# Altium footprint library AL3S10LG144.PcbLib: 2 footprints
Each footprint in its own frame and in the unit in brackets; x right, y up, seen from the top. Pads: shape width x height; smd on the part's side, far side on the other; paste and mask are expansions set on the pad; w line width, h text height; cw(c..) or ccw(c..) is an arc to the next point about the centre after c.
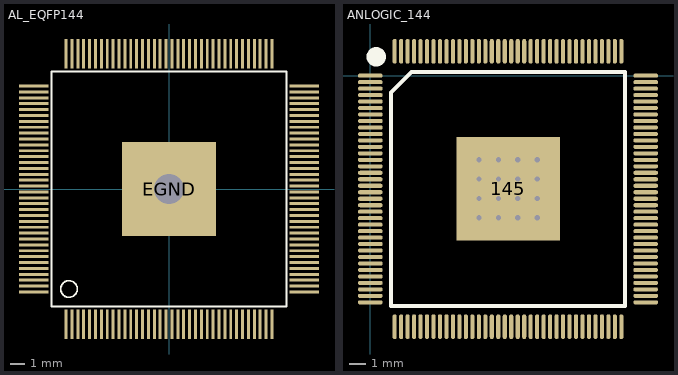
[diagram p0: the footprints below, top view; thin cyan lines are the x and y axes]

## AL_EQFP144 [mm]
pads (145):
  rect 0.2x2 smd: 1(-7,-9.2) 2(-6.6,-9.2) 3(-6.2,-9.2) 4(-5.8,-9.2) 5(-5.4,-9.2) 6(-5,-9.2) 7(-4.6,-9.2) 8(-4.2,-9.2) 9(-3.8,-9.2) 10(-3.4,-9.2) 11(-3,-9.2) 12(-2.6,-9.2) 13(-2.2,-9.2) 14(-1.8,-9.2) 15(-1.4,-9.2) 16(-1,-9.2) 17(-0.6,-9.2) 18(-0.2,-9.2) 19(0.2,-9.2) 20(0.6,-9.2) 21(1,-9.2) 22(1.4,-9.2) 23(1.8,-9.2) 24(2.2,-9.2) 25(2.6,-9.2) 26(3,-9.2) 27(3.4,-9.2) 28(3.8,-9.2) 29(4.2,-9.2) 30(4.6,-9.2) 31(5,-9.2) 32(5.4,-9.2) 33(5.8,-9.2) 34(6.2,-9.2) 35(6.6,-9.2) 36(7,-9.2) 73(7,9.2) 74(6.6,9.2) 75(6.2,9.2) 76(5.8,9.2) 77(5.4,9.2) 78(5,9.2) 79(4.6,9.2) 80(4.2,9.2) 81(3.8,9.2) 82(3.4,9.2) 83(3,9.2) 84(2.6,9.2) 85(2.2,9.2) 86(1.8,9.2) 87(1.4,9.2) 88(1,9.2) 89(0.6,9.2) 90(0.2,9.2) 91(-0.2,9.2) 92(-0.6,9.2) 93(-1,9.2) 94(-1.4,9.2) 95(-1.8,9.2) 96(-2.2,9.2) 97(-2.6,9.2) 98(-3,9.2) 99(-3.4,9.2) 100(-3.8,9.2) 101(-4.2,9.2) 102(-4.6,9.2) 103(-5,9.2) 104(-5.4,9.2) 105(-5.8,9.2) 106(-6.2,9.2) 107(-6.6,9.2) 108(-7,9.2)
  rect 2x0.2 smd: 37(9.2,-7) 38(9.2,-6.6) 39(9.2,-6.2) 40(9.2,-5.8) 41(9.2,-5.4) 42(9.2,-5) 43(9.2,-4.6) 44(9.2,-4.2) 45(9.2,-3.8) 46(9.2,-3.4) 47(9.2,-3) 48(9.2,-2.6) 49(9.2,-2.2) 50(9.2,-1.8) 51(9.2,-1.4) 52(9.2,-1) 53(9.2,-0.6) 54(9.2,-0.2) 55(9.2,0.2) 56(9.2,0.6) 57(9.2,1) 58(9.2,1.4) 59(9.2,1.8) 60(9.2,2.2) 61(9.2,2.6) 62(9.2,3) 63(9.2,3.4) 64(9.2,3.8) 65(9.2,4.2) 66(9.2,4.6) 67(9.2,5) 68(9.2,5.4) 69(9.2,5.8) 70(9.2,6.2) 71(9.2,6.6) 72(9.2,7) 109(-9.2,7) 110(-9.2,6.6) 111(-9.2,6.2) 112(-9.2,5.8) 113(-9.2,5.4) 114(-9.2,5) 115(-9.2,4.6) 116(-9.2,4.2) 117(-9.2,3.8) 118(-9.2,3.4) 119(-9.2,3) 120(-9.2,2.6) 121(-9.2,2.2) 122(-9.2,1.8) 123(-9.2,1.4) 124(-9.2,1) 125(-9.2,0.6) 126(-9.2,0.2) 127(-9.2,-0.2) 128(-9.2,-0.6) 129(-9.2,-1) 130(-9.2,-1.4) 131(-9.2,-1.8) 132(-9.2,-2.2) 133(-9.2,-2.6) 134(-9.2,-3) 135(-9.2,-3.4) 136(-9.2,-3.8) 137(-9.2,-4.2) 138(-9.2,-4.6) 139(-9.2,-5) 140(-9.2,-5.4) 141(-9.2,-5.8) 142(-9.2,-6.2) 143(-9.2,-6.6) 144(-9.2,-7)
  rect 6.4x6.4 smd: EGND(0,0)
via 0,0 diameter 2.54 hole 2.032
Top Overlay:
  circle w0.127: c-6.8,-6.8 r0.566
  lines w0.127: -8,-8 -8,8 8,8 8,-8 -8,-8

## ANLOGIC_144 [mil]
pads (145):
  oval 60x10 smd: 1(0,0) 2(0,-15.75) 3(0,-31.5) 4(0,-47.24) 5(0,-62.99) 6(0,-78.74) 7(0,-94.49) 8(0,-110.24) 9(0,-125.98) 10(0,-141.73) 11(0,-157.48) 12(0,-173.23) 13(0,-188.98) 14(0,-204.72) 15(0,-220.47) 16(0,-236.22) 17(0,-251.97) 18(0,-267.72) 19(0,-283.46) 20(0,-299.21) 21(0,-314.96) 22(0,-330.71) 23(0,-346.46) 24(0,-362.2) 25(0,-377.95) 26(0,-393.7) 27(0,-409.45) 28(0,-425.2) 29(0,-440.94) 30(0,-456.69) 31(0,-472.44) 32(0,-488.19) 33(0,-503.94) 34(0,-519.68) 35(0,-535.43) 36(0,-551.18) 73(669.29,-551.18) 74(669.29,-535.43) 75(669.29,-519.68) 76(669.29,-503.94) 77(669.29,-488.19) 78(669.29,-472.44) 79(669.29,-456.69) 80(669.29,-440.94) 81(669.29,-425.2) 82(669.29,-409.45) 83(669.29,-393.7) 84(669.29,-377.95) 85(669.29,-362.2) 86(669.29,-346.46) 87(669.29,-330.71) 88(669.29,-314.96) 89(669.29,-299.21) 90(669.29,-283.46) 91(669.29,-267.72) 92(669.29,-251.97) 93(669.29,-236.22) 94(669.29,-220.47) 95(669.29,-204.72) 96(669.29,-188.98) 97(669.29,-173.23) 98(669.29,-157.48) 99(669.29,-141.73) 100(669.29,-125.98) 101(669.29,-110.24) 102(669.29,-94.49) 103(669.29,-78.74) 104(669.29,-62.99) 105(669.29,-47.24) 106(669.29,-31.5) 107(669.29,-15.75) 108(669.29,0)
  oval 10x60 smd: 37(59.06,-610.24) 38(74.8,-610.24) 39(90.55,-610.24) 40(106.3,-610.24) 41(122.05,-610.24) 42(137.8,-610.24) 43(153.54,-610.24) 44(169.29,-610.24) 45(185.04,-610.24) 46(200.79,-610.24) 47(216.54,-610.24) 48(232.28,-610.24) 49(248.03,-610.24) 50(263.78,-610.24) 51(279.53,-610.24) 52(295.28,-610.24) 53(311.02,-610.24) 54(326.77,-610.24) 55(342.52,-610.24) 56(358.27,-610.24) 57(374.02,-610.24) 58(389.76,-610.24) 59(405.51,-610.24) 60(421.26,-610.24) 61(437.01,-610.24) 62(452.76,-610.24) 63(468.5,-610.24) 64(484.25,-610.24) 65(500,-610.24) 66(515.75,-610.24) 67(531.5,-610.24) 68(547.24,-610.24) 69(562.99,-610.24) 70(578.74,-610.24) 71(594.49,-610.24) 72(610.24,-610.24) 109(610.24,59.06) 110(594.49,59.06) 111(578.74,59.06) 112(562.99,59.06) 113(547.24,59.06) 114(531.5,59.06) 115(515.75,59.06) 116(500,59.06) 117(484.25,59.06) 118(468.5,59.06) 119(452.76,59.06) 120(437.01,59.06) 121(421.26,59.06) 122(405.51,59.06) 123(389.76,59.06) 124(374.02,59.06) 125(358.27,59.06) 126(342.52,59.06) 127(326.77,59.06) 128(311.02,59.06) 129(295.28,59.06) 130(279.53,59.06) 131(263.78,59.06) 132(248.03,59.06) 133(232.28,59.06) 134(216.54,59.06) 135(200.79,59.06) 136(185.04,59.06) 137(169.29,59.06) 138(153.54,59.06) 139(137.8,59.06) 140(122.05,59.06) 141(106.3,59.06) 142(90.55,59.06) 143(74.8,59.06) 144(59.06,59.06)
  rect 251.97x251.97 smd: 145(335,-275)
via 264.13,-204.13 diameter 25.98 hole 12.99
via 311.38,-204.13 diameter 25.98 hole 12.99
via 358.62,-204.13 diameter 25.98 hole 12.99
via 405.87,-204.13 diameter 25.98 hole 12.99
via 264.13,-251.38 diameter 25.98 hole 12.99
via 311.38,-251.38 diameter 25.98 hole 12.99
via 358.62,-251.38 diameter 25.98 hole 12.99
via 405.87,-251.38 diameter 25.98 hole 12.99
via 264.13,-298.62 diameter 25.98 hole 12.99
via 311.38,-298.62 diameter 25.98 hole 12.99
via 358.62,-298.62 diameter 25.98 hole 12.99
via 405.87,-298.62 diameter 25.98 hole 12.99
via 264.13,-345.87 diameter 25.98 hole 12.99
via 311.38,-345.87 diameter 25.98 hole 12.99
via 358.62,-345.87 diameter 25.98 hole 12.99
via 405.87,-345.87 diameter 25.98 hole 12.99
Top Overlay:
  circle w23.62: c14.13,45.87 r11.81
  lines w10: 50,-560.24 619.29,-560.24 619.29,9.06 100,9.06 50,-40.94 50,-560.24
Mechanical 15:
  lines w3.94: 315.31,-275 354.69,-275 ; 335,-294.69 335,-255.31